# Altium footprint library 0878311020.PCBLIB: 1 footprints
Each footprint in its own frame and in the unit in brackets; x right, y up, seen from the top. Pads: shape width x height; smd on the part's side, far side on the other; paste and mask are expansions set on the pad; w line width, h text height; cw(c..) or ccw(c..) is an arc to the next point about the centre after c.
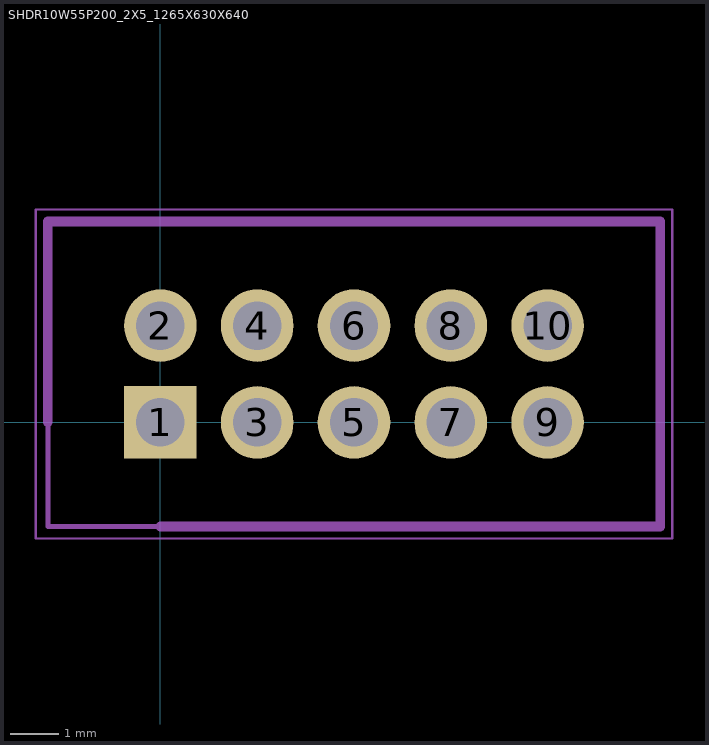
[diagram p0: the footprint, top view; thin cyan lines are the x and y axes]

## SHDR10W55P200_2X5_1265X630X640 [mm]
pads (10):
  rect 1.5x1.5 / inner round 1.386 / far side rect 1.5x1.5 hole 1: 1(0,0)
  round 1.5 hole 1: 2(0,2) 3(2,0) 4(2,2) 5(4,0) 6(4,2) 7(6,0) 8(6,2) 9(8,0) 10(8,2)
tDocu:
  lines w0.05: -2.575,-2.4 -2.575,4.4 10.575,4.4 10.575,-2.4 -2.575,-2.4
  lines w0.1: -2.325,-2.15 -2.325,4.15 10.325,4.15 10.325,-2.15 -2.325,-2.15
tPlace:
  lines w0.2: -2.325,0 -2.325,4.15 10.325,4.15 10.325,-2.15 0,-2.15